# Altium footprint library con-tycoelectronics.PCBLIB: 10 footprints
Each footprint in its own frame and in the unit in brackets; x right, y up, seen from the top. Pads: shape width x height; smd on the part's side, far side on the other; paste and mask are expansions set on the pad; w line width, h text height; cw(c..) or ccw(c..) is an arc to the next point about the centre after c.
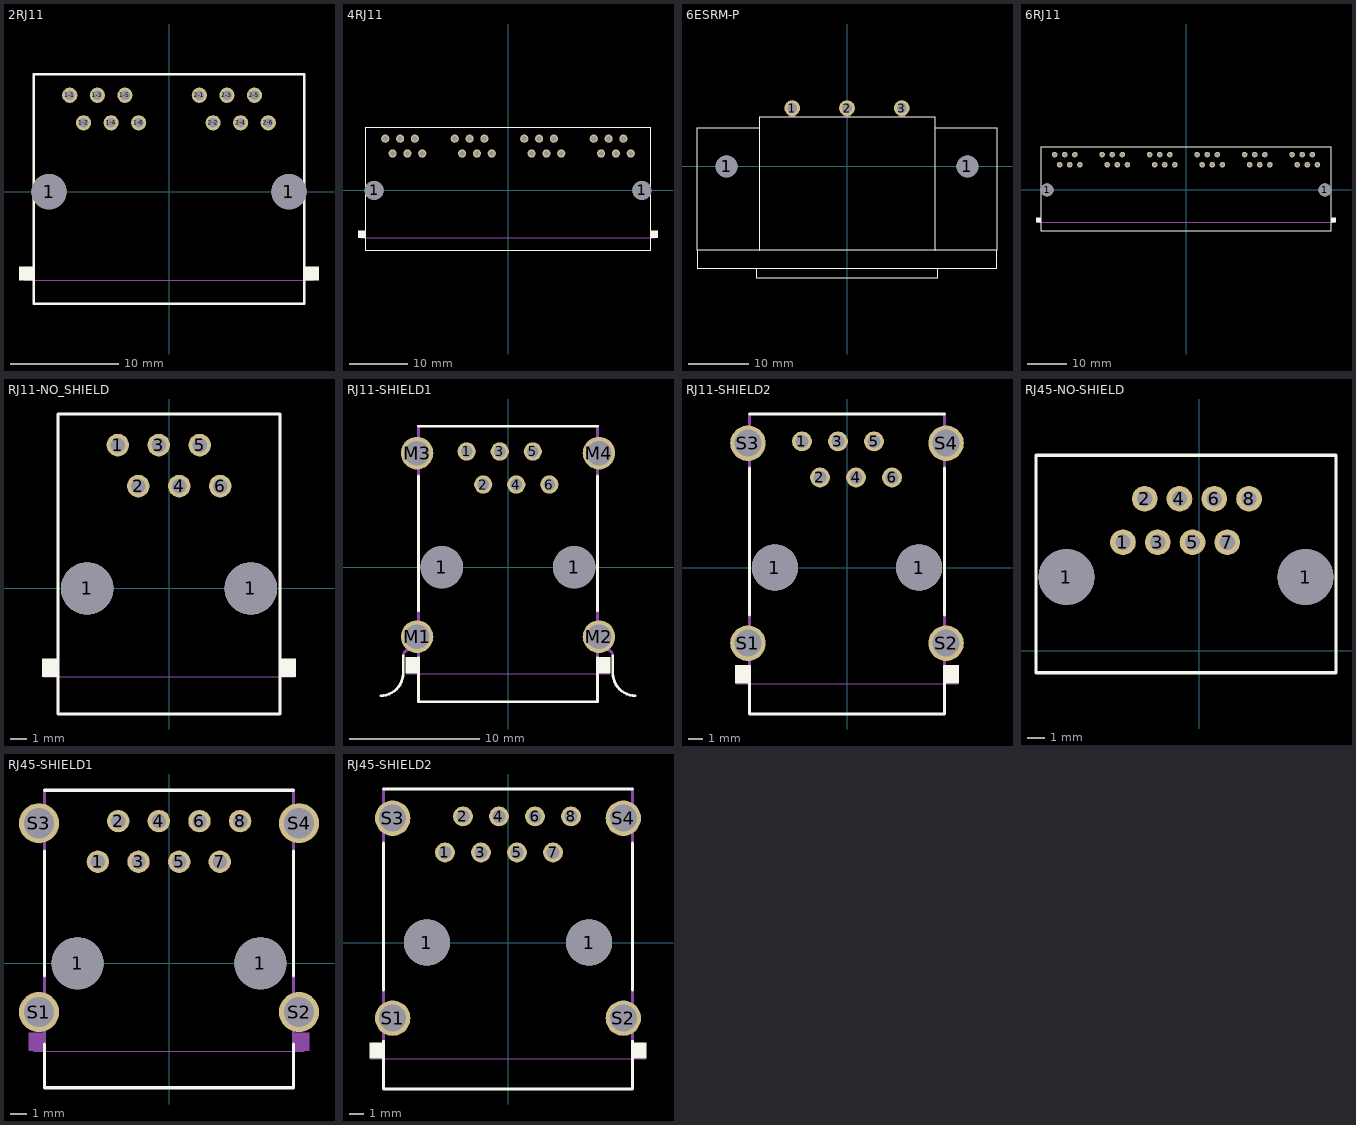
[diagram p0: the footprints below, top view; thin cyan lines are the x and y axes]

## 2RJ11 [mil]
pads (14):
  round 128 hole 128: 1(-435,0) 1(435,0)
  round 55.12 hole 35.43: 1-1(-360,350) 1-2(-310,250) 1-3(-260,350) 1-4(-210,250) 1-5(-160,350) 1-6(-110,250) 2-1(110,350) 2-2(160,250) 2-3(210,350) 2-4(260,250) 2-5(310,350) 2-6(360,250)
Top Overlay:
  rectangle: -544.25,-321.85 -493.86,-270.94
  rectangle: 493.86,-321.85 544.25,-270.94
  lines w8: -490.98,-406.38 -490.98,425.94 490.98,425.94 490.98,-406.38 -490.98,-406.38
Mechanical 1:
  lines w0.39: -522.5,-322.05 522.5,-322.05

## 4RJ11 [mil]
pads (26):
  round 128 hole 128: 1(-905,0) 1(905,0)
  round 55.12 hole 35.43: 1-1(-830,350) 1-2(-780,250) 1-3(-730,350) 1-4(-680,250) 1-5(-630,350) 1-6(-580,250) 2-1(-360,350) 2-2(-310,250) 2-3(-260,350) 2-4(-210,250) 2-5(-160,350) 2-6(-110,250) 3-1(110,350) 3-2(160,250) 3-3(210,350) 3-4(260,250) 3-5(310,350) 3-6(360,250) 4-1(580,350) 4-2(630,250) 4-3(680,350) 4-4(730,250) 4-5(780,350) 4-6(830,250)
Top Overlay:
  rectangle: -1014.25,-321.85 -963.86,-270.94
  rectangle: 963.86,-321.85 1014.25,-270.94
  lines w8: -960.98,-406.38 -960.98,425.94 960.98,425.94 960.98,-406.38 -960.98,-406.38
Mechanical 1:
  lines w0.39: -992.5,-322.05 992.5,-322.05

## 6ESRM-P [mm]
pads (5):
  round 3.6 hole 3.6: 1(-20,0) 1(20,0)
  round 2.6 hole 1.6: 1(-9.1,9.7) 2(0,9.7) 3(9.1,9.7)
Top Overlay:
  lines w0.203: -15.025,-16.95 -15.025,-18.475 15.025,-18.475 15.025,-16.975 ; -14.605,-13.97 -14.605,6.4 ; 14.605,-13.97 14.605,6.4 ; -24.9,-13.9 24.9,-13.9 ; -24.9,-13.9 -24.9,-16.9 24.9,-16.9 24.9,-13.9 ; -24.9,-13.9 -24.9,6.4 -14.605,6.4 ; -14.605,6.4 -14.605,8.255 14.605,8.255 14.605,6.4 ; 14.605,6.4 24.9,6.4 24.9,-13.9
Mechanical 16:
  rectangle: -9.675,8.25 -8.525,10.175
  rectangle: -0.575,8.25 0.575,10.175
  rectangle: 8.525,8.25 9.675,10.175

## 6RJ11 [mil]
pads (38):
  round 128 hole 128: 1(-1375,0) 1(1375,0)
  round 55.12 hole 35.43: 1-1(-1300,350) 1-2(-1250,250) 1-3(-1200,350) 1-4(-1150,250) 1-5(-1100,350) 1-6(-1050,250) 2-1(-830,350) 2-2(-780,250) 2-3(-730,350) 2-4(-680,250) 2-5(-630,350) 2-6(-580,250) 3-1(-360,350) 3-2(-310,250) 3-3(-260,350) 3-4(-210,250) 3-5(-160,350) 3-6(-110,250) 4-1(110,350) 4-2(160,250) 4-3(210,350) 4-4(260,250) 4-5(310,350) 4-6(360,250) 5-1(580,350) 5-2(630,250) 5-3(680,350) 5-4(730,250) 5-5(780,350) 5-6(830,250) 6-1(1050,350) 6-2(1100,250) 6-3(1150,350) 6-4(1200,250) 6-5(1250,350) 6-6(1300,250)
Top Overlay:
  rectangle: -1484.25,-321.85 -1433.86,-270.94
  rectangle: 1433.86,-321.85 1484.25,-270.94
  lines w8: -975.75,425.94 -434.25,425.94 ; -904.25,425.94 -1430.98,425.94 -1430.98,-406.38 1430.98,-406.38 1430.98,425.94 904.25,425.94 ; -505.75,425.94 35.75,425.94 ; -35.75,425.94 505.75,425.94 ; 434.25,425.94 975.75,425.94
Mechanical 1:
  lines w0.39: -1462.5,-322.05 1462.5,-322.05

## RJ11-NO_SHIELD [mil]
pads (8):
  round 128 hole 128: 1(-200,0) 1(200,0)
  round 55.12 hole 35.43: 1(-125,350) 2(-75,250) 3(-25,350) 4(25,250) 5(75,350) 6(125,250)
Top Overlay:
  rectangle: 273.62,-215.94 310.04,-170.94
  rectangle: -310.04,-215.94 -273.62,-170.94
  lines w8: -270.75,-306.38 270.75,-306.38 270.75,425.94 -270.75,425.94 -270.75,-306.38
Mechanical 1:
  lines w0.39: -307.5,-216.93 307.5,-216.93

## RJ11-SHIELD1 [mil]
pads (12):
  round 128 hole 128: 1(-200,0) 1(200,0)
  round 55.12 hole 35.43: 1(-125,350) 2(-75,250) 3(-25,350) 4(25,250) 5(75,350) 6(125,250)
  round 98.43 hole 74.8: M1(-275,-210) M2(275,-210) M3(-275,345) M4(275,345)
Top Overlay:
  rectangle: -310.04,-321.85 -273.62,-270.94
  rectangle: 273.62,-321.85 310.04,-270.94
  lines w8: -385.24,-388.58 ccw(c-385.24,-320.27) -316.93,-320.28 -316.93,-268.31 ; -270.75,-274.06 -270.75,-406.38 270.75,-406.38 270.75,-274.06 ; -270.75,-131.38 -270.75,275.94 ; -270.75,425.94 270.75,425.94 ; 270.75,-131.38 270.75,275.94 ; 316.93,-268.31 316.93,-320.28 ccw(c385.24,-320.27) 385.24,-388.58
Mechanical 1:
  lines w0.39: -307.5,-322.05 307.5,-322.05
Mechanical 16:
  lines w8: -316.93,-268.31 cw(c-298.23,-268.31) -298.23,-249.61 -270.67,-249.61 ; -270.75,-281.38 -270.75,-124.06 ; -270.75,268.62 -270.75,425.94 ; 270.67,-249.61 298.23,-249.61 cw(c298.23,-268.31) 316.93,-268.31 ; 270.75,-281.38 270.75,-124.06 ; 270.75,268.62 270.75,425.94

## RJ11-SHIELD2 [mil]
pads (12):
  round 128 hole 128: 1(-200,0) 1(200,0)
  round 55.12 hole 35.43: 1(-125,350) 2(-75,250) 3(-25,350) 4(25,250) 5(75,350) 6(125,250)
  round 98.43 hole 74.8: S1(-275,-210) S2(275,-210) S3(-275,345) S4(275,345)
Top Overlay:
  rectangle: 273.62,-321.85 310.04,-270.94
  rectangle: -310.04,-321.85 -273.62,-270.94
  lines w8: -270.75,-274.06 -270.75,-406.38 270.75,-406.38 270.75,-274.06 ; -270.75,-131.38 -270.75,275.94 ; -270.75,425.94 270.75,425.94 ; 270.75,-131.38 270.75,275.94
Mechanical 1:
  lines w0.39: -307.5,-322.05 307.5,-322.05
Mechanical 16:
  lines w8: -270.75,-281.38 -270.75,-124.06 ; -270.75,268.62 -270.75,425.94 ; 270.75,-281.38 270.75,-124.06 ; 270.75,268.62 270.75,425.94

## RJ45-NO-SHIELD [mil]
pads (10):
  round 128 hole 128: 1(-305,170) 1(245,170)
  round 59.06 hole 35.43: 1(-175,250) 2(-125,350) 3(-95,250) 4(-45,350) 5(-15,250) 6(35,350) 7(65,250) 8(115,350)
Top Overlay:
  lines w8: -375,-50 315,-50 315,450 -375,450 -375,-50

## RJ45-SHIELD1 [mil]
pads (14):
  round 128 hole 128: 1(-225,0) 1(225,0)
  round 55.12 hole 35.43: 1(-175,250) 2(-125,350) 3(-75,250) 4(-25,350) 5(25,250) 6(75,350) 7(125,250) 8(175,350)
  round 98.43 hole 74.8: S1(-320,-120) S2(320,-120) S3(-320,344.88) S4(320,344.88)
Top Overlay:
  lines w8: -306.18,-199.06 -306.18,-306.38 306.18,-306.38 306.18,-199.06 ; -306.18,-31.38 -306.18,275.94 ; -306.18,425.94 306.18,425.94 ; 306.18,-31.38 306.18,275.94
Mechanical 1:
  lines w0.39: -332.5,-217 332.5,-217
Mechanical 16:
  rectangle: -345.47,-215.94 -309.06,-170.94
  rectangle: 309.06,-215.94 345.47,-170.94
  lines w8: -306.18,-206.38 -306.18,-24.06 ; -306.18,268.62 -306.18,425.94 ; 306.18,-206.38 306.18,-24.06 ; 306.18,268.62 306.18,425.94

## RJ45-SHIELD2 [mil]
pads (14):
  round 128 hole 128: 1(-225,0) 1(225,0)
  round 55.12 hole 35.43: 1(-175,250) 2(-125,350) 3(-75,250) 4(-25,350) 5(25,250) 6(75,350) 7(125,250) 8(175,350)
  round 98.43 hole 74.8: S1(-320,-209.84) S2(320,-209.84) S3(-320,344.88) S4(320,344.88)
Top Overlay:
  rectangle: -384.84,-321.85 -348.43,-276.85
  rectangle: 348.43,-321.85 384.84,-276.85
  lines w8: -345.55,-274.06 -345.55,-406.38 345.55,-406.38 345.55,-274.06 ; -345.55,-131.38 -345.55,275.94 ; -345.55,425.94 345.55,425.94 ; 345.55,-131.38 345.55,275.94
Mechanical 1:
  lines w0.39: -382.5,-322.05 382.5,-322.05
Mechanical 16:
  lines w8: -345.55,-281.38 -345.55,-124.06 ; -345.55,268.62 -345.55,425.94 ; 345.55,-281.38 345.55,-124.06 ; 345.55,268.62 345.55,425.94